# Altium footprint library Theremin_Project.PcbLib: 37 footprints (part 3 of 3)
Each footprint in its own frame and in the unit in brackets; x right, y up, seen from the top. Pads: shape width x height; smd on the part's side, far side on the other; paste and mask are expansions set on the pad; w line width, h text height; cw(c..) or ccw(c..) is an arc to the next point about the centre after c.
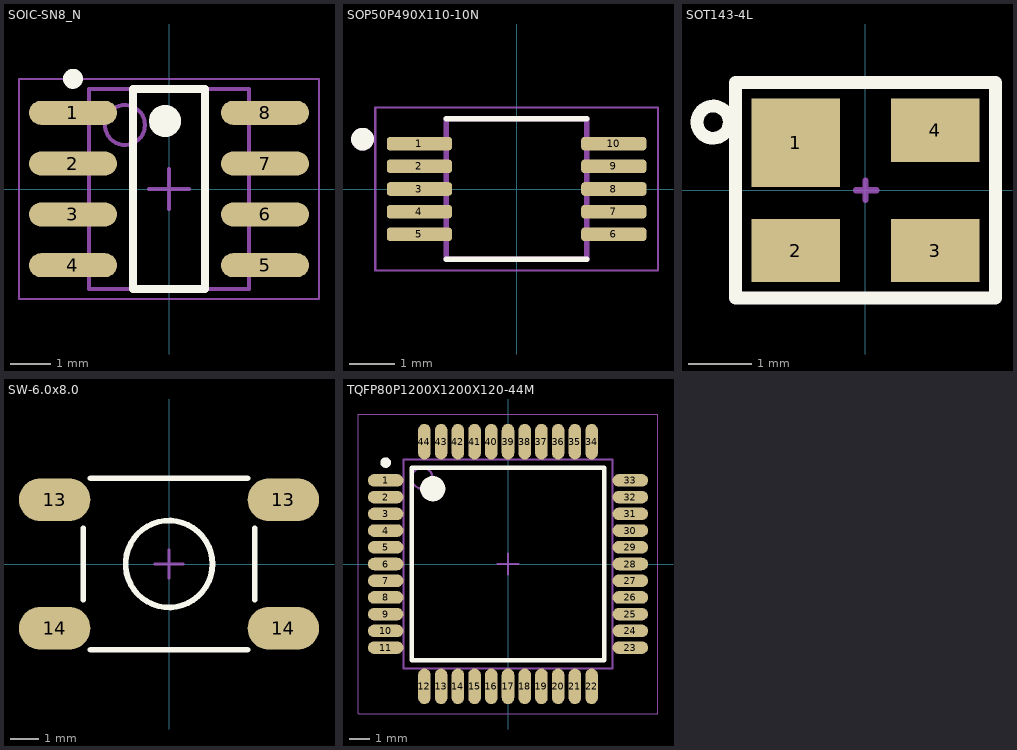
[diagram p2: the footprints below, top view; thin cyan lines are the x and y axes]

## SOIC-SN8_N [mm] "SOIC, 8-Leads, Body 4.9x3.9mm, Pitch 1.27mm, IPC Medium Density"
height 1.75
pads (8):
  oval 2.2x0.6 smd: 1(-2.4,1.905) 2(-2.4,0.635) 3(-2.4,-0.635) 4(-2.4,-1.905) 5(2.4,-1.905) 6(2.4,-0.635) 7(2.4,0.635) 8(2.4,1.905)
Top Overlay:
  circle w0.25: c-2.4,2.755 r0.125
  circle w0.4: c-0.1,1.7 r0.2
  lines w0.2: -0.9,-2.5 -0.9,2.5 0.9,2.5 0.9,-2.5 -0.9,-2.5
Mechanical 13:
  circle w0.1: c-1.1,1.6 r0.5
  lines w0.1: -2,-2.5 -2,2.5 2,2.5 2,-2.5 -2,-2.5
Mechanical 15:
  lines w0.05: -3.75,-2.75 -3.75,2.75 3.75,2.75 3.75,-2.75 -3.75,-2.75
  lines w0.1: -0.5,0 0.5,0 ; 0,-0.5 0,0.5
3D body: height 1.75, standoff 0.1, extent -2,-2.5 2,2.5

## SOP50P490X110-10N [mm]
pads (10):
  rrect50% 1.44x0.3 smd: 1(-2.145,1) 2(-2.145,0.5) 3(-2.145,0) 4(-2.145,-0.5) 5(-2.145,-1) 6(2.145,-1) 7(2.145,-0.5) 8(2.145,0) 9(2.145,0.5) 10(2.145,1)
Top Overlay:
  circle w0.3: c-3.4,1.1 r0.1
  lines w0.127: -1.55,-1.55 1.55,-1.55 ; -1.55,1.55 1.55,1.55
Mechanical 13:
  circle w0.3: c-3.4,1.1 r0.1
  lines w0.127: -1.55,-1.55 -1.55,1.55 1.55,1.55 1.55,-1.55 -1.55,-1.55
Mechanical 15:
  lines w0.05: -3.12,-1.8 -3.12,1.8 3.12,1.8 3.12,-1.8 -3.12,-1.8
3D body "step_temp.STEP": height 1.1, standoff 0, extent -2.45,-1.5 2.45,1.5

## SOT143-4L [mm] "SOT143-4L, 4-Leads, Body 2.95x2.4mm, Pitch 1.70/1.90mm"
height 1.075
pads (4):
  rect 1.4x1.4 smd: 1(-1.1,0.75)
  rect 1.4x1 smd: 2(-1.1,-0.95) 3(1.1,-0.95) 4(1.1,0.95)
Top Overlay:
  circle w0.2: c-2.404,1.075 r0.254
  lines w0.2: -2.05,-1.7 2.05,-1.7 2.05,1.7 -2.05,1.7 -2.05,-1.675
Mechanical 15:
  lines w0.1: -2.05,-1.7 -2.05,1.7 ; -0.15,0 0.175,0 ; 0,-0.15 0,0.15 ; 2.075,-1.688 2.075,1.741
  lines w0.102: -2.05,-1.7 2.05,-1.7 ; -1.989,1.741 2.075,1.741
3D body "WE-TVS_High_Speed_SOT143-4L.stp": height 1.03, standoff -0.03, extent -1.2,-1.46 1.2,1.46

## SW-6.0x8.0 [mm] "SMD Crystall"
height 4.3
pads (4):
  oval 2.5x1.5 smd: 13(-4,2.25) 13(4,2.25) 14(-4,-2.25) 14(4,-2.25)
Top Overlay:
  circle w0.2: c0,0 r1.521
  lines w0.2: -3,-1.25 -3,1.25 ; -2.75,-3 2.75,-3 ; -2.75,3 2.75,3 ; 3,-1.25 3,1.25
Top Courtyard:
  lines w0.1: -0.5,0 0.5,0 ; 0,-0.5 0,0.5
Top Assembly:
  text ".Comment" at -3.75,-4.5 h1
3D body "PTS641SK25.stp": height 2.5, standoff 0, extent -4.2,-3.3 4.2,3.3

## TQFP80P1200X1200X120-44M [mm] "TQFP, 44-Leads, Body 10,00x10,00mm, Pitch 0,80mm, IPC Low Density"
height 1.2
pads (44):
  oval 1.7x0.6 smd: 1(-5.85,4) 2(-5.85,3.2) 3(-5.85,2.4) 4(-5.85,1.6) 5(-5.85,0.8) 6(-5.85,0) 7(-5.85,-0.8) 8(-5.85,-1.6) 9(-5.85,-2.4) 10(-5.85,-3.2) 11(-5.85,-4) 23(5.85,-4) 24(5.85,-3.2) 25(5.85,-2.4) 26(5.85,-1.6) 27(5.85,-0.8) 28(5.85,0) 29(5.85,0.8) 30(5.85,1.6) 31(5.85,2.4) 32(5.85,3.2) 33(5.85,4)
  oval 0.6x1.7 smd: 12(-4,-5.85) 13(-3.2,-5.85) 14(-2.4,-5.85) 15(-1.6,-5.85) 16(-0.8,-5.85) 17(0,-5.85) 18(0.8,-5.85) 19(1.6,-5.85) 20(2.4,-5.85) 21(3.2,-5.85) 22(4,-5.85) 34(4,5.85) 35(3.2,5.85) 36(2.4,5.85) 37(1.6,5.85) 38(0.8,5.85) 39(0,5.85) 40(-0.8,5.85) 41(-1.6,5.85) 42(-2.4,5.85) 43(-3.2,5.85) 44(-4,5.85)
Top Overlay:
  circle w0.25: c-5.85,4.85 r0.125
  circle w0.6: c-3.6,3.6 r0.3
  lines w0.2: -4.6,-4.6 -4.6,4.6 4.6,4.6 4.6,-4.6 -4.6,-4.6
Top Courtyard:
  lines w0.05: -7.175,-7.175 -7.175,7.175 7.175,7.175 7.175,-7.175 -7.175,-7.175
  lines w0.1: -0.5,0 0.5,0 ; 0,-0.5 0,0.5
Top Assembly:
  circle w0.1: c-4.1,4.1 r0.5
  lines w0.1: -5,-5 -5,5 5,5 5,-5 -5,-5
  text ".Comment" at -3.64,-8.465 h1
3D body "TQFP80P1200X1200X120-44M.step": height 1.2, standoff 0, extent -6,-6 6,6